# Altium footprint library lf_esp_pcb_lib.PcbLib: 13 footprints
Each footprint in its own frame and in the unit in brackets; x right, y up, seen from the top. Pads: shape width x height; smd on the part's side, far side on the other; paste and mask are expansions set on the pad; w line width, h text height; cw(c..) or ccw(c..) is an arc to the next point about the centre after c.
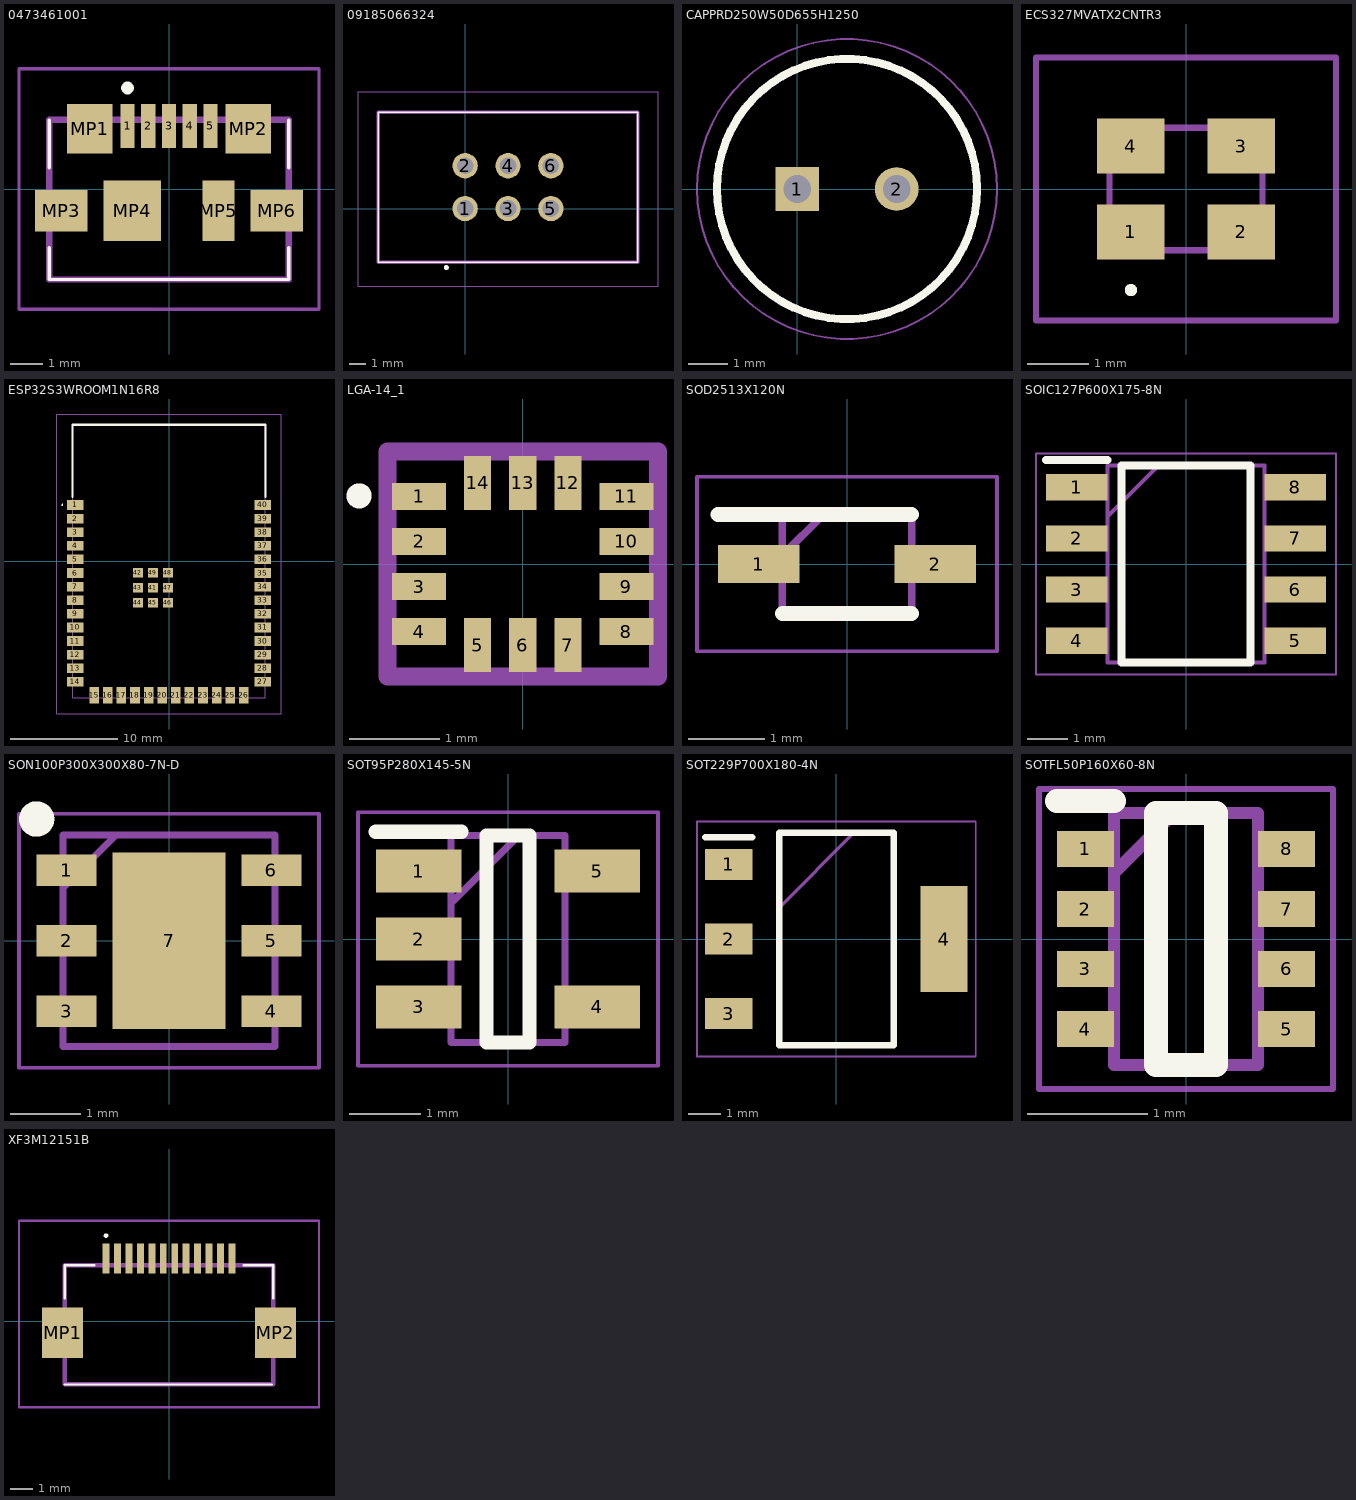
[diagram p0: the footprints below, top view; thin cyan lines are the x and y axes]

## 0473461001 [mm]
pads (11):
  rect 0.45x1.38 smd: 1(-1.3,1.975) 2(-0.65,1.975) 3(0,1.975) 4(0.65,1.975) 5(1.3,1.975)
  rect 1.425x1.55 smd: MP1(-2.487,1.89) MP2(2.487,1.89)
  rect 1.65x1.3 smd: MP3(-3.375,-0.685) MP6(3.375,-0.685)
  rect 1.8x1.9 smd: MP4(-1.15,-0.685)
  rect 1x1.9 smd: MP5(1.55,-0.685)
Top Overlay:
  lines w0.1: -3.75,-1.835 -3.75,-2.835 3.75,-2.835 3.75,-1.835 ; -3.75,0.665 -3.75,2.165 ; 3.75,0.665 3.75,2.165
  lines w0.2: -1.4,3.165 ccw(c-1.3,3.165) -1.2,3.165 ccw(c-1.3,3.165) -1.4,3.165
Mechanical 13:
  lines w0.2: -3.75,-2.835 3.75,-2.835 3.75,2.165 -3.75,2.165 -3.75,-2.835
Mechanical 15:
  lines w0.1: -4.7,-3.765 4.7,-3.765 4.7,3.765 -4.7,3.765 -4.7,-3.765
3D body "0473461001.stp": height 2.72, standoff 0.01, extent -3.9,-2.5 3.9,2.5

## 09185066324 [mm]
pads (6):
  round 1.5 hole 1: 1(0,0) 2(0,2.54) 3(2.54,0) 4(2.54,2.54) 5(5.08,0) 6(5.08,2.54)
Top Overlay:
  circle w0.2: c-1.12,-3.5 r0.05
  lines w0.1: -5.16,-3.18 -5.16,5.72 10.24,5.72 10.24,-3.18 -5.16,-3.18
Mechanical 13:
  lines w0.2: -5.16,-3.18 -5.16,5.72 10.24,5.72 10.24,-3.18 -5.16,-3.18
Mechanical 15:
  lines w0.05: -6.36,-4.6 -6.36,6.92 11.44,6.92 11.44,-4.6 -6.36,-4.6
3D body "09185066324.stp": height 9.31, standoff -3.04, extent -5.16,-3.21 10.24,5.99

## CAPPRD250W50D655H1250 [mm]
pads (2):
  rect 1.1x1.1 hole 0.7: 1(0,0)
  round 1.1 hole 0.7: 2(2.5,0)
Top Overlay:
  circle w0.2: c1.25,0 r3.275
Mechanical 13:
  circle w0.1: c1.25,0 r3.275
Mechanical 15:
  circle w0.05: c1.25,0 r3.775
3D body "UVY1V101MED1TD.stp": height 12.5, standoff -10, extent -2.15,-3.4 4.65,3.4

## ECS327MVATX2CNTR3 [mm]
pads (4):
  rect 1.1x0.9 smd: 1(-0.9,-0.7) 2(0.9,-0.7) 3(0.9,0.7) 4(-0.9,0.7)
Top Overlay:
  lines w0.1: -0.9,-1.7 cw(c-0.9,-1.65) -0.9,-1.6 cw(c-0.9,-1.65) -0.9,-1.7
Mechanical 13:
  lines w0.1: -1.25,-1 -1.25,1 1.25,1 1.25,-1 -1.25,-1
Mechanical 15:
  lines w0.1: -2.45,-2.15 -2.45,2.15 2.45,2.15 2.45,-2.15 -2.45,-2.15
3D body "ECS-327MVATX-2-CN-TR3.stp": height 1.1, standoff 0, extent -1.36,-1.06 1.36,1.06

## ESP32S3WROOM1N16R8 [mm]
pads (49):
  rect 1.5x0.9 smd: 1(-8.75,5.26) 2(-8.75,3.99) 3(-8.75,2.72) 4(-8.75,1.45) 5(-8.75,0.18) 6(-8.75,-1.09) 7(-8.75,-2.36) 8(-8.75,-3.63) 9(-8.75,-4.9) 10(-8.75,-6.17) 11(-8.75,-7.44) 12(-8.75,-8.71) 13(-8.75,-9.98) 14(-8.75,-11.25) 27(8.75,-11.25) 28(8.75,-9.98) 29(8.75,-8.71) 30(8.75,-7.44) 31(8.75,-6.17) 32(8.75,-4.9) 33(8.75,-3.63) 34(8.75,-2.36) 35(8.75,-1.09) 36(8.75,0.18) 37(8.75,1.45) 38(8.75,2.72) 39(8.75,3.99) 40(8.75,5.26)
  rect 0.9x1.5 smd: 15(-6.985,-12.5) 16(-5.715,-12.5) 17(-4.445,-12.5) 18(-3.175,-12.5) 19(-1.905,-12.5) 20(-0.635,-12.5) 21(0.635,-12.5) 22(1.905,-12.5) 23(3.175,-12.5) 24(4.445,-12.5) 25(5.715,-12.5) 26(6.985,-12.5)
  rect 0.9x0.9 smd: 41(-1.5,-2.46) 42(-2.9,-1.06) 43(-2.9,-2.46) 44(-2.9,-3.86) 45(-1.5,-3.86) 46(-0.1,-3.86) 47(-0.1,-2.46) 48(-0.1,-1.06) 49(-1.5,-1.06)
Top Overlay:
  lines w0.1: -10,5.26 cw(c-9.95,5.26) -9.9,5.26 cw(c-9.95,5.26) -10,5.26
  lines w0.2: -9,6 -9,12.75 9,12.75 9,6
Mechanical 13:
  lines w0.1: -9,-12.75 9,-12.75 9,12.75 -9,12.75 -9,-12.75
Mechanical 15:
  lines w0.1: -10.5,-14.25 10.5,-14.25 10.5,13.75 -10.5,13.75 -10.5,-14.25
3D body "ESP32-S3-WROOM-1-N16R8.stp": height 12.75, standoff -12.75, extent -9,0 9,3.25

## LGA-14_1 [mm]
pads (14):
  rect 0.6x0.3 smd: 1(-1.15,0.75) 2(-1.15,0.25) 3(-1.15,-0.25) 4(-1.15,-0.75) 8(1.15,-0.75) 9(1.15,-0.25) 10(1.15,0.25) 11(1.15,0.75)
  rect 0.3x0.6 smd: 5(-0.5,-0.9) 6(0,-0.9) 7(0.5,-0.9) 12(0.5,0.9) 13(0,0.9) 14(-0.5,0.9)
Top Overlay:
  circle w0.254: c-1.815,0.756 r0.012
Mechanical 13:
  lines w0.2: -1.5,-1.25 -1.5,1.25 1.5,1.25 1.5,-1.25 -1.5,-1.25
3D body "LSM6DSOXTR.stp": height 0.86, standoff 0, extent -1.62,-1.25 1.38,1.25

## SOD2513X120N [mm]
pads (2):
  rect 1.075x0.5 smd: 1(-1.162,0) 2(1.162,0)
Top Overlay:
  lines w0.2: -1.7,0.65 0.85,0.65 ; -0.85,-0.65 0.85,-0.65
Mechanical 13:
  lines w0.1: -0.85,0.112 -0.312,0.65 ; -0.85,-0.65 -0.85,0.65 0.85,0.65 0.85,-0.65 -0.85,-0.65
Mechanical 15:
  lines w0.05: -1.975,-1.15 -1.975,1.15 1.975,1.15 1.975,-1.15 -1.975,-1.15
3D body "BAT760-7.stp": height 1.2, standoff 0, extent -1.25,-0.65 1.25,0.65

## SOIC127P600X175-8N [mm]
pads (8):
  rect 1.525x0.65 smd: 1(-2.712,1.905) 2(-2.712,0.635) 3(-2.712,-0.635) 4(-2.712,-1.905) 5(2.712,-1.905) 6(2.712,-0.635) 7(2.712,0.635) 8(2.712,1.905)
Top Overlay:
  lines w0.2: -3.475,2.58 -1.95,2.58 ; -1.6,-2.45 -1.6,2.45 1.6,2.45 1.6,-2.45 -1.6,-2.45
Mechanical 13:
  lines w0.1: -1.95,1.18 -0.68,2.45 ; -1.95,-2.45 -1.95,2.45 1.95,2.45 1.95,-2.45 -1.95,-2.45
Mechanical 15:
  lines w0.05: -3.725,-2.75 -3.725,2.75 3.725,2.75 3.725,-2.75 -3.725,-2.75
3D body "NE555DR.stp": height 1.75, standoff 0, extent -3,-2.45 3,2.45

## SON100P300X300X80-7N-D [mm]
pads (7):
  rect 0.85x0.45 smd: 1(-1.45,1) 2(-1.45,0) 3(-1.45,-1) 4(1.45,-1) 5(1.45,0) 6(1.45,1)
  rect 1.6x2.5 smd: 7(0,0)
Top Overlay:
  circle w0.25: c-1.875,1.725 r0.125
Mechanical 13:
  lines w0.1: -1.5,0.75 -0.75,1.5 ; -1.5,-1.5 1.5,-1.5 1.5,1.5 -1.5,1.5 -1.5,-1.5
Mechanical 15:
  lines w0.05: -2.125,-1.8 2.125,-1.8 2.125,1.8 -2.125,1.8 -2.125,-1.8
3D body "HDC1080DMBR.stp": height 0.8, standoff 0, extent -1.55,-1.5 1.55,1.5

## SOT95P280X145-5N [mm]
pads (5):
  rect 1.2x0.6 smd: 1(-1.25,0.95) 2(-1.25,0) 3(-1.25,-0.95) 4(1.25,-0.95) 5(1.25,0.95)
Top Overlay:
  lines w0.2: -1.85,1.5 -0.65,1.5 ; -0.3,-1.45 0.3,-1.45 0.3,1.45 -0.3,1.45 -0.3,-1.45
Mechanical 13:
  lines w0.1: -0.8,0.5 0.15,1.45 ; -0.8,-1.45 0.8,-1.45 0.8,1.45 -0.8,1.45 -0.8,-1.45
Mechanical 15:
  lines w0.05: -2.1,-1.775 2.1,-1.775 2.1,1.775 -2.1,1.775 -2.1,-1.775
3D body "TPS7A2433DBVR.stp": height 1.2, standoff 0, extent -1.4,-1.45 1.4,1.45

## SOT229P700X180-4N [mm]
pads (4):
  rect 1.45x0.95 smd: 1(-3.3,2.29) 2(-3.3,0) 3(-3.3,-2.29)
  rect 1.45x3.25 smd: 4(3.3,0)
Top Overlay:
  lines w0.2: -4.025,3.115 -2.575,3.115 ; -1.752,-3.252 -1.752,3.252 1.752,3.252 1.752,-3.252 -1.752,-3.252
Mechanical 13:
  lines w0.1: -1.752,0.962 0.538,3.252 ; -1.752,-3.252 -1.752,3.252 1.752,3.252 1.752,-3.252 -1.752,-3.252
Mechanical 15:
  lines w0.05: -4.275,-3.605 -4.275,3.605 4.275,3.605 4.275,-3.605 -4.275,-3.605
3D body "AMS1117-3.3.stp": height 1.8, standoff 0, extent -3.355,-3.15 3.355,3.15

## SOTFL50P160X60-8N [mm]
pads (8):
  rect 0.475x0.3 smd: 1(-0.838,0.75) 2(-0.838,0.25) 3(-0.838,-0.25) 4(-0.838,-0.75) 5(0.838,-0.75) 6(0.838,-0.25) 7(0.838,0.25) 8(0.838,0.75)
Top Overlay:
  lines w0.2: -1.075,1.15 -0.6,1.15 ; -0.25,-1.05 -0.25,1.05 0.25,1.05 0.25,-1.05 -0.25,-1.05
Mechanical 13:
  lines w0.1: -0.6,0.55 -0.1,1.05 ; -0.6,-1.05 -0.6,1.05 0.6,1.05 0.6,-1.05 -0.6,-1.05
Mechanical 15:
  lines w0.05: -1.225,-1.25 -1.225,1.25 1.225,1.25 1.225,-1.25 -1.225,-1.25
3D body "TPS62933DRLR.stp": height 0.6, standoff 0, extent -0.8,-1.02 0.8,1.08

## XF3M12151B [mm]
pads (14):
  rect 0.3x1.3 smd: 1(-2.75,2.75) 2(-2.25,2.75) 3(-1.75,2.75) 4(-1.25,2.75) 5(-0.75,2.75) 6(-0.25,2.75) 7(0.25,2.75) 8(0.75,2.75) 9(1.25,2.75) 10(1.75,2.75) 11(2.25,2.75) 12(2.75,2.75)
  rect 1.8x2.2 smd: MP1(-4.65,-0.5) MP2(4.65,-0.5)
Top Overlay:
  lines w0.1: -4.55,2.45 -3.25,2.45 -4.55,2.45 ; -4.55,2.45 -4.55,1 -4.55,2.45 ; 4.55,2.45 3.25,2.45 4.55,2.45 ; 4.55,2.45 4.55,1 4.55,2.45 ; -4.55,-2.75 4.5,-2.75 -4.55,-2.75 ; -2.75,3.7 ccw(c-2.75,3.75) -2.75,3.8 ccw(c-2.75,3.75) -2.75,3.7
Mechanical 13:
  lines w0.2: -4.55,-2.75 4.55,-2.75 4.55,2.45 -4.55,2.45 -4.55,-2.75
Mechanical 15:
  lines w0.1: -6.55,-3.75 6.55,-3.75 6.55,4.4 -6.55,4.4 -6.55,-3.75
3D body "XF3M-1215-1B.stp": height 2, standoff 0, extent -5.05,-2.77 5.05,3.63